# EAGLE library part 61001618321 (library Board-to-Board (rev18a))
WR-PHD 2.54mm SMT Pin Header, 16 Pins =>Code : Con_BTB_PHD_2.54_1_SMT_61001618321 <http://katalog.we-online.de/media/images/eican/Con_BTB_PHD_2.54_1_SMT_6100xx18221_pf2.jpg> Details see: http://katalog.we-online.de/en/em/610_0xx_182_21 Created 2014-05-29, Karrer Zheng 2014 (C) Würth Elektronik
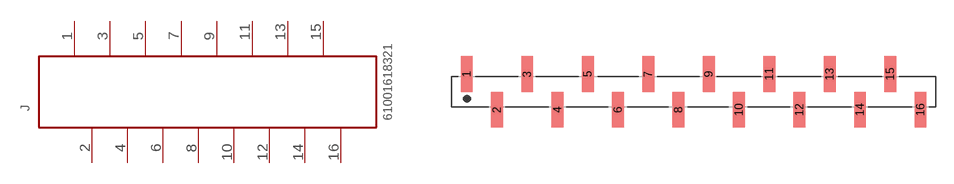
[diagram p69: symbol with the pads of 61001618321; footprint 61001618321]

Designator prefix J

## 61001618321  [61001618321]
1  16  pas
2  15  pas
3  14  pas
4  13  pas
5  12  pas
6  11  pas
7  10  pas
8  9  pas
9  8  pas
10  7  pas
11  6  pas
12  5  pas
13  4  pas
14  3  pas
15  2  pas
16  1  pas

## Footprint 61001618321 (pad centres in mm)
WR-PHD 2.54mm SMT Pin Header, 16 Pins
smd 1 x 3: 1 -19.05,1.5; 2 -16.51,-1.5; 3 -13.97,1.5; 4 -11.43,-1.5; 5 -8.89,1.5; 6 -6.35,-1.5; 7 -3.81,1.5; 8 -1.27,-1.5; 9 1.27,1.5; 10 3.81,-1.5; 11 6.35,1.5; 12 8.89,-1.5; 13 11.43,1.5; 14 13.97,-1.5; 15 16.51,1.5; 16 19.05,-1.5